# Altium footprint library 协处理器.PcbLib: 17 footprints (part 2 of 2)
Each footprint in its own frame and in the unit in brackets; x right, y up, seen from the top. Pads: shape width x height; smd on the part's side, far side on the other; paste and mask are expansions set on the pad; w line width, h text height; cw(c..) or ccw(c..) is an arc to the next point about the centre after c.
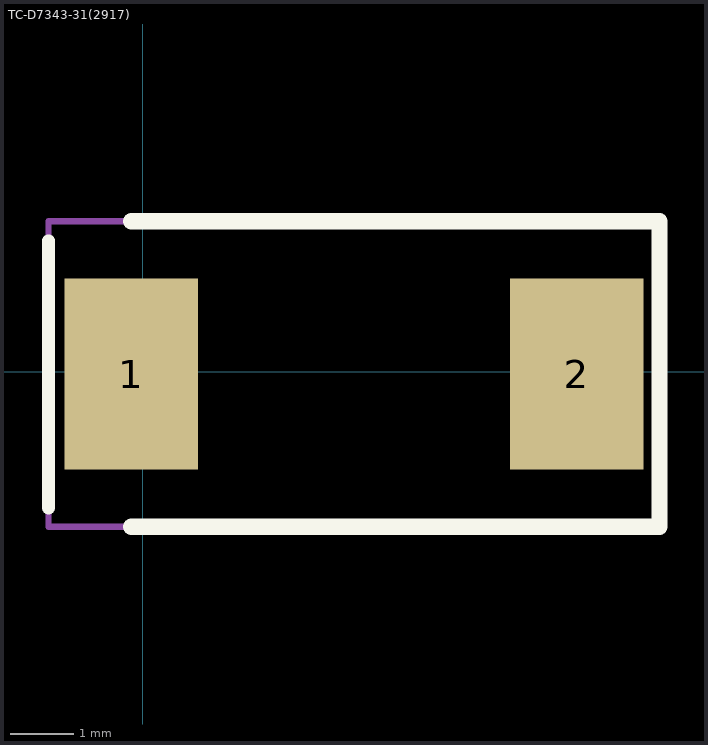
[diagram p1: the footprint, top view; thin cyan lines are the x and y axes]

## TC-D7343-31(2917) [mm]
height 5.33
pads (2):
  rect 2.1x3 smd: 1(-0.181,-0.033) 2(6.819,-0.033)
Top Overlay:
  lines w0.2: -1.481,-2.138 -1.481,2.062
  lines w0.254: -0.181,-2.433 8.119,-2.433 8.119,2.367 -0.181,2.367
Mechanical 15:
  lines w0.1: -1.481,-2.433 -1.481,2.367 8.119,2.367 8.119,-2.433 -1.481,-2.433